# Altium footprint library SIM7080G.PcbLib: 1 footprints
Each footprint in its own frame and in the unit in brackets; x right, y up, seen from the top. Pads: shape width x height; smd on the part's side, far side on the other; paste and mask are expansions set on the pad; w line width, h text height; cw(c..) or ccw(c..) is an arc to the next point about the centre after c.
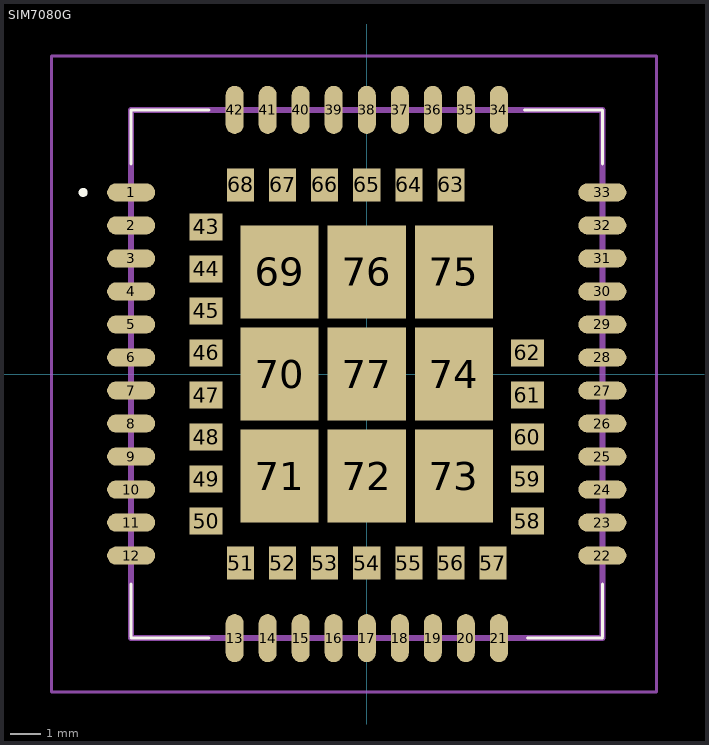
[diagram p0: the footprint, top view; thin cyan lines are the x and y axes]

## SIM7080G [mm]
pads (77):
  oval 1.6x0.6 smd: 1(-7.85,6.05) 2(-7.85,4.95) 3(-7.85,3.85) 4(-7.85,2.75) 5(-7.85,1.65) 6(-7.85,0.55) 7(-7.85,-0.55) 8(-7.85,-1.65) 9(-7.85,-2.75) 10(-7.85,-3.85) 11(-7.85,-4.95) 12(-7.85,-6.05) 22(7.85,-6.05) 23(7.85,-4.95) 24(7.85,-3.85) 25(7.85,-2.75) 26(7.85,-1.65) 27(7.85,-0.55) 28(7.85,0.55) 29(7.85,1.65) 30(7.85,2.75) 31(7.85,3.85) 32(7.85,4.95) 33(7.85,6.05)
  oval 0.6x1.6 smd: 13(-4.4,-8.8) 14(-3.3,-8.8) 15(-2.2,-8.8) 16(-1.1,-8.8) 17(0,-8.8) 18(1.1,-8.8) 19(2.2,-8.8) 20(3.3,-8.8) 21(4.4,-8.8) 34(4.4,8.8) 35(3.3,8.8) 36(2.2,8.8) 37(1.1,8.8) 38(0,8.8) 39(-1.1,8.8) 40(-2.2,8.8) 41(-3.3,8.8) 42(-4.4,8.8)
  rect 1.1x0.9 smd: 43(-5.35,4.9) 44(-5.35,3.5) 45(-5.35,2.1) 46(-5.35,0.7) 47(-5.35,-0.7) 48(-5.35,-2.1) 49(-5.35,-3.5) 50(-5.35,-4.9) 58(5.35,-4.9) 59(5.35,-3.5) 60(5.35,-2.1) 61(5.35,-0.7) 62(5.35,0.7)
  rect 0.9x1.1 smd: 51(-4.2,-6.3) 52(-2.8,-6.3) 53(-1.4,-6.3) 54(0,-6.3) 55(1.4,-6.3) 56(2.8,-6.3) 57(4.2,-6.3) 63(2.8,6.3) 64(1.4,6.3) 65(0,6.3) 66(-1.4,6.3) 67(-2.8,6.3) 68(-4.2,6.3)
  rect 2.6x3.1 smd: 69(-2.9,3.4) 70(-2.9,0) 71(-2.9,-3.4) 72(0,-3.4) 73(2.9,-3.4) 74(2.9,0) 75(2.9,3.4) 76(0,3.4) 77(0,0)
Top Overlay:
  lines w0.1: -7.85,-8.8 -5.25,-8.8 ; -7.85,-8.8 -5.25,-8.8 ; -7.85,-8.8 -7.85,-8.8 ; -7.85,-8.75 -7.85,-7 ; -7.85,-8.75 -7.85,-8.75 ; -7.85,-8.75 -7.85,-7 ; -7.85,-7 -7.85,-7 ; -7.85,7 -7.85,8.8 ; -7.85,7 -7.85,7 ; -7.85,7 -7.85,8.8 ; -7.85,8.8 -5.25,8.8 ; -7.85,8.8 -7.85,8.8 ; -7.85,8.8 -5.25,8.8 ; -7.85,8.8 -7.85,8.8 ; -5.25,-8.8 -5.25,-8.8 ; -5.25,8.8 -5.25,8.8 ; 5.25,8.8 7.85,8.8 ; 5.25,8.8 7.85,8.8 ; 5.25,8.8 5.25,8.8 ; 5.35,-8.8 7.85,-8.8 ; 5.35,-8.8 5.35,-8.8 ; 5.35,-8.8 7.85,-8.8 ; 7.85,-8.8 7.85,-8.8 ; 7.85,-8.75 7.85,-7 ; 7.85,-8.75 7.85,-8.75 ; 7.85,-8.75 7.85,-7 ; 7.85,-7 7.85,-7 ; 7.85,7 7.85,8.8 ; 7.85,7 7.85,7 ; 7.85,7 7.85,8.8 ; 7.85,8.8 7.85,8.8 ; 7.85,8.8 7.85,8.8
  lines w0.2: -9.5,6.05 cw(c-9.45,6.05) -9.4,6.05 ; -9.5,6.05 -9.5,6.05 ; -9.5,6.05 ccw(c-9.45,6.05) -9.4,6.05 ; -9.5,6.05 cw(c-9.45,6.05) -9.4,6.05 ; -9.4,6.05 -9.4,6.05 ; -9.4,6.05 -9.4,6.05
Mechanical 15:
  lines w0.2: -7.85,-8.8 7.85,-8.8 7.85,8.8 -7.85,8.8 -7.85,-8.8
Mechanical 20:
  lines w0.1: -10.5,-10.6 9.65,-10.6 9.65,10.6 -10.5,10.6 -10.5,-10.6